# Altium footprint library MCUBE_Footprints.PcbLib: 1 footprints
Each footprint in its own frame and in the unit in brackets; x right, y up, seen from the top. Pads: shape width x height; smd on the part's side, far side on the other; paste and mask are expansions set on the pad; w line width, h text height; cw(c..) or ccw(c..) is an arc to the next point about the centre after c.
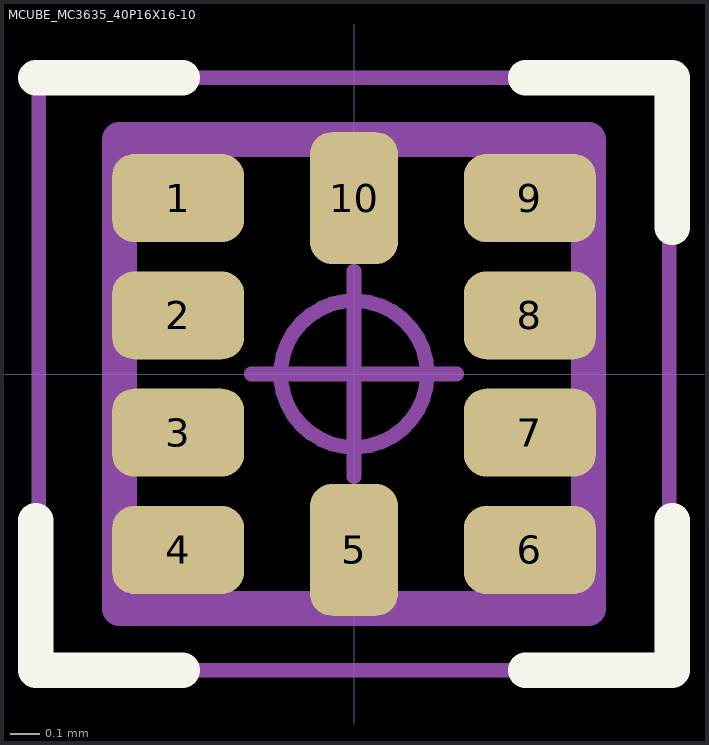
[diagram p0: the footprint, top view; thin cyan lines are the x and y axes]

## MCUBE_MC3635_40P16X16-10 [mm] "LEAD WIDTH 0.2mm, LEAD LENGTH 0.3mm, LEAD PITCH 0.4mm, BODY SIZE 1.6X1.6 mm"
height 1
pads (10):
  rrect50% 0.45x0.3 smd: 1(-0.6,0.6) 2(-0.6,0.2) 3(-0.6,-0.2) 4(-0.6,-0.6) 6(0.6,-0.6) 7(0.6,-0.2) 8(0.6,0.2) 9(0.6,0.6)
  rrect50% 0.3x0.45 smd: 5(0,-0.6) 10(0,0.6)
Top Overlay:
  lines w0.12: -1.085,-1.01 -0.585,-1.01 ; -1.085,-1 -1.085,-0.5 ; -1.085,1.01 -0.585,1.01 ; 0.585,-1.01 1.085,-1.01 ; 0.585,1.01 1.085,1.01 ; 1.085,-1 1.085,-0.5 ; 1.085,0.5 1.085,1
Mechanical 11:
  lines w0.12: -0.8,-0.8 0.8,-0.8 0.8,0.8 -0.8,0.8 -0.8,-0.8
Mechanical 12:
  lines w0.025: -0.5,0.7 -0.4,0.6 -0.4,0.5 -0.7,0.5 -0.7,0.7 -0.5,0.7 ; -0.5,0.7 -0.5,0.7 ; -0.8,-0.8 0.8,-0.8 0.8,0.8 -0.8,0.8 -0.8,-0.8 ; -0.7,-0.7 -0.4,-0.7 -0.4,-0.5 -0.7,-0.5 -0.7,-0.7 ; -0.7,-0.3 -0.4,-0.3 -0.4,-0.1 -0.7,-0.1 -0.7,-0.3 ; -0.7,0.1 -0.4,0.1 -0.4,0.3 -0.7,0.3 -0.7,0.1 ; -0.1,-0.7 0.1,-0.7 0.1,-0.4 -0.1,-0.4 -0.1,-0.7 ; -0.1,0.4 -0.1,0.7 0.1,0.7 0.1,0.4 -0.1,0.4 ; 0.4,-0.7 0.7,-0.7 0.7,-0.5 0.4,-0.5 0.4,-0.7 ; 0.4,-0.3 0.7,-0.3 0.7,-0.1 0.4,-0.1 0.4,-0.3 ; 0.4,0.1 0.7,0.1 0.7,0.3 0.4,0.3 0.4,0.1 ; 0.4,0.5 0.4,0.7 0.7,0.7 0.7,0.5 0.4,0.5
Mechanical 15:
  circle w0.05: c0,0 r0.25
  lines w0.05: -0.35,0 0.35,0 ; 0,-0.35 0,0.35 ; 0,0 0.25,0 ; -1.075,-1.01 -1.075,1.01 1.075,1.01 1.075,-1.01 -1.075,-1.01
Mechanical 16:
  text "'.Designator'" at 0,0 h1.2